# Altium schematic symbol library SCH - CHOKE - KEMET SCF.SchLib: 1 symbol
Pins are listed as number, name and electrical type; pins without a type are passive.

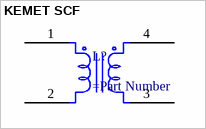
[diagram p0: symbol KEMET SCF]

## KEMET SCF
designator L?
pins: 1, 2, 3, 4